# Altium schematic symbol library Schlib_Holt_Integrated_Circuits.SchLib: 3 symbols
Pins are listed as number, name and electrical type; pins without a type are passive.

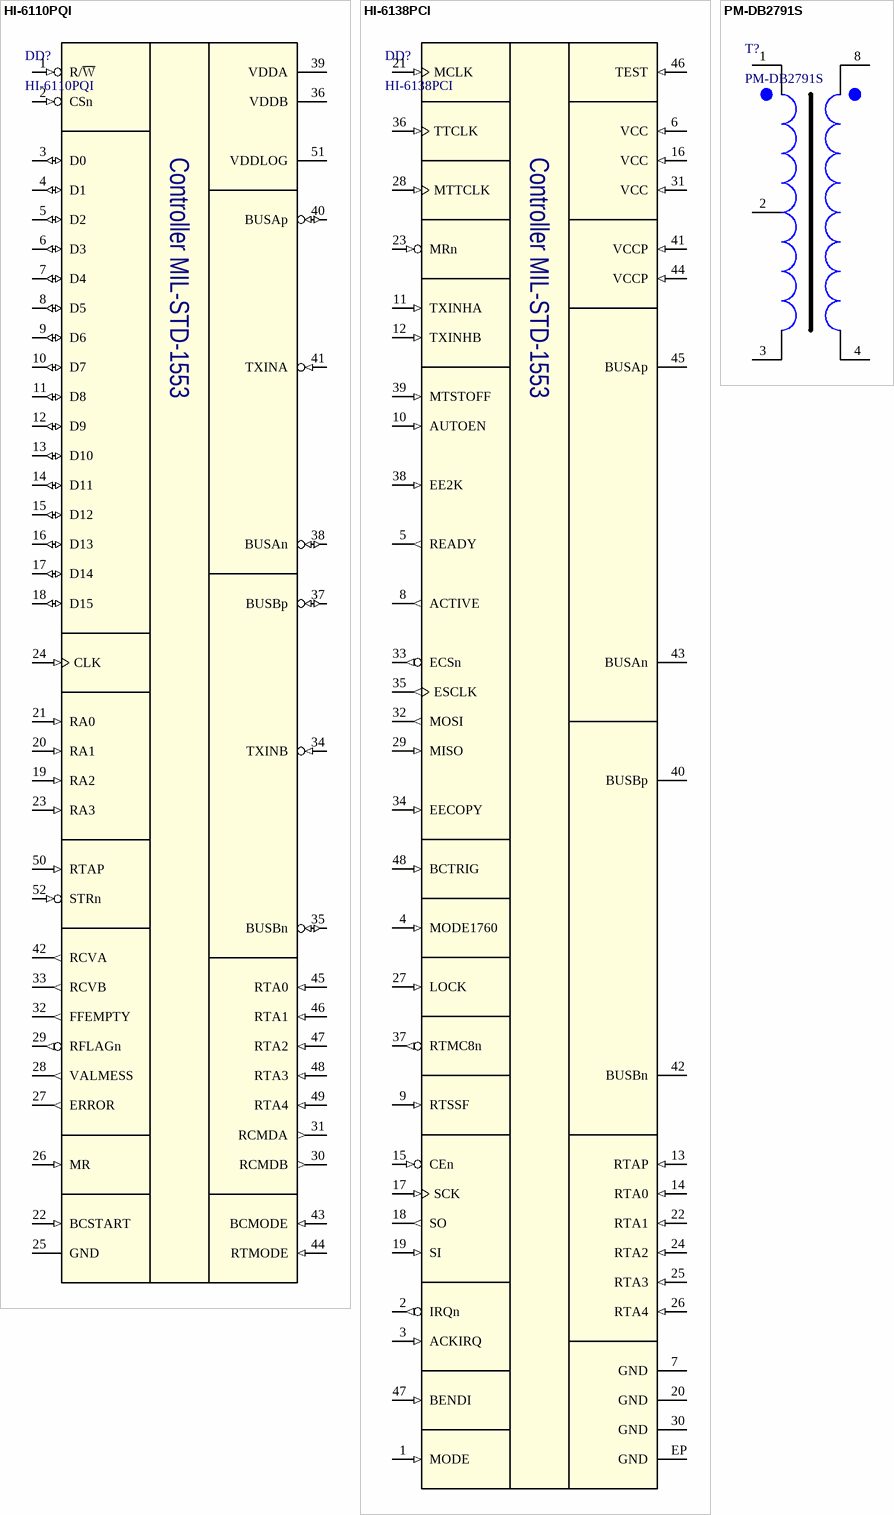
[diagram p0: symbols HI-6110PQI to PM-DB2791S]

## HI-6110PQI
designator DD?
Controller MIL-STD-1553; Manufacturer: Holt Integrated Circuits, Inc.; Package: PQFP52; Part Nubmer: HI-6110PQI
footprint PQFP-52 (QFP, 52-Leads, Body 10,00x10,00mm, Pitch 0,65mm, IPC Medium Density)
pins: 1 R/~{W} (in), 2 CSn (in), 3 D0 (io), 4 D1 (io), 5 D2 (io), 6 D3 (io), 7 D4 (io), 8 D5 (io), 9 D6 (io), 10 D7 (io), 11 D8 (io), 12 D9 (io), 13 D10 (io), 14 D11 (io), 15 D12 (io), 16 D13 (io), 17 D14 (io), 18 D15 (io), 19 RA2 (in), 20 RA1 (in), 21 RA0 (in), 22 BCSTART (in), 23 RA3 (in), 24 CLK (in), 25 GND (power), 26 MR (in), 27 ERROR (out), 28 VALMESS (out), 29 RFLAGn (out), 30 RCMDB (out), 31 RCMDA (out), 32 FFEMPTY (out), 33 RCVB (out), 34 TXINB (in), 35 BUSBn (io), 36 VDDB (power), 37 BUSBp (io), 38 BUSAn (io), 39 VDDA (power), 40 BUSAp (io), 41 TXINA (in), 42 RCVA (out), 43 BCMODE (in), 44 RTMODE (in), 45 RTA0 (in), 46 RTA1 (in), 47 RTA2 (in), 48 RTA3 (in), 49 RTA4 (in), 50 RTAP (in), 51 VDDLOG (power), 52 STRn (in)

## HI-6138PCI
designator DD?
Controller MIL-STD-1553; Manufacturer: Holt Integrated Circuits, Inc.; Package: PQFP52; Part Nubmer: HI-6138PCI
footprint QFN48-0.4 (QFN48 package 6x6 mm with 0.4mm pitch)
pins: 1 MODE (in) "Input, 50kΩ pull-up", 2 IRQn (out), 3 ACKIRQ (in) "Input, 50kΩ pull-down", 4 MODE1760 (in) "Input, 50kΩ pull-down", 5 READY (out), 6 VCC (in) "Power Supply 3.3V", 7 GND (power), 8 ACTIVE (out), 9 RTSSF (in) "Input, 50kΩ pull-down", 10 AUTOEN (in) "Input, 50kΩ pull-down", 11 TXINHA (in) "Input, 50kΩ pull-up", 12 TXINHB (in) "Input, 50kΩ pull-up", 13 RTAP (in) "Input, 50kΩ pull-up", 14 RTA0 (in) "Input, 50kΩ pull-up", 15 CEn (in) "Input, 50kΩ pull-up", 16 VCC (in) "Power Supply 3.3V", 17 SCK (in) "Input, 50kΩ pull-down", 18 SO (out), 19 SI (in) "Input, 50kΩ pull-down", 20 GND (power), 21 MCLK (in) "Input, 50kΩ pull-down", 22 RTA1 (in) "Input, 50kΩ pull-up", 23 MRn (in) "Input, 50kΩ pull-up", 24 RTA2 (in) "Input, 50kΩ pull-up", 25 RTA3 (in) "Input, 50kΩ pull-up", 26 RTA4 (in) "Input, 50kΩ pull-up", 27 LOCK (in) "Input, 50kΩ pull-down", 28 MTTCLK (in) "Input, 50kΩ pull-down", 29 MISO (in) "Input, 50kΩ pull-down", 30 GND (power), 31 VCC (in) "Power Supply 3.3V", 32 MOSI (out), 33 ECSn (out), 34 EECOPY (in) "Input, 50kΩ pull-down", 35 ESCLK (out), 36 TTCLK (in) "Input, 50kΩ pull-down", 37 RTMC8n (out), 38 EE2K (in) "Input, 50kΩ pull-down", 39 MTSTOFF (in) "Input, 50kΩ pull-down", 40 BUSBp, 41 VCCP (in) "Power Supply 3.3V", 42 BUSBn, 43 BUSAn, 44 VCCP (in) "Power Supply 3.3V", 45 BUSAp, 46 TEST (in) "Input, 50kΩ pull-down", 47 BENDI (in) "Input, 50kΩ pull-down", 48 BCTRIG (in) "Input, 50kΩ pull-down", EP GND (power)

## PM-DB2791S
designator T?
Isolation Transformers for MIL-STD-1553; Manufacturer: Holt Integrated Circuits, Inc.; Part Nubmer: PM-DB2791S
footprint PM-DB2791S
pins: 1, 2, 3, 4, 8